# EAGLE library part AD654JRZ (library AD654)
Low Cost Monolithic Voltage-to-Frequency Converter
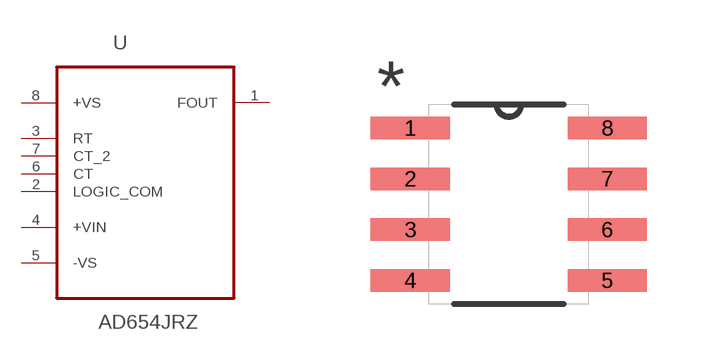
[diagram p0: symbol with the pads of SOIC127P600X175-8N; footprint SOIC127P600X175-8N]

Designator prefix U

## AD654JRZ (MPN: AD654JRZ; OC_FARNELL: 9605363; OC_NEWARK: 59K4468; PACKAGE: SOIC-8; SUPPLIER: Analog Devices)  [SOIC127P600X175-8N]
1  FOUT  out
2  LOGIC_COM  pas
3  RT  pas
4  +VIN  in
5  -VS  pwr
6  CT  pas
7  CT_2  pas
8  +VS  pwr

## Footprint SOIC127P600X175-8N (pad centres in mm)
smd 1.981 x 0.559: 1 -2.464,1.905; 2 -2.464,0.635; 3 -2.464,-0.635; 4 -2.464,-1.905; 5 2.464,-1.905; 6 2.464,-0.635; 7 2.464,0.635; 8 2.464,1.905